# Altium schematic symbol library rcl_PTH.SchLib: 9 symbols (part 2 of 2)
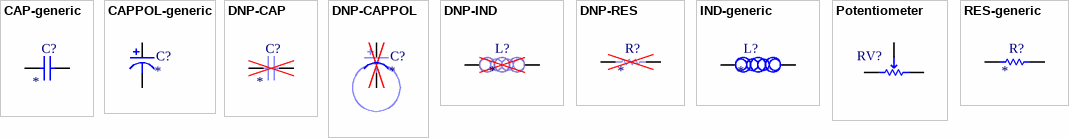
[diagram p1: symbols CAP-generic to RES-generic]

## RES-generic
designator R?
Resistor PTH; Populated: Yes; Value: *; Manuf1: *; Manuf2: *; Manuf1Partnumber: *; Manuf2Partnumber: *; ClassName: *; ROHS: Yes; LifeCycle: Checked; HelpURL: *; Power: *; Tolerance: *
footprint 0204/5
footprint 0204/7
footprint 0204V
footprint 0207/2V
footprint 0207/5V
footprint 0207/7
footprint 0207/10
footprint 0207/12
footprint 0207/15
footprint 0309/10
footprint 0309/12
footprint 0309V
footprint 0411/12
footprint 0411/15
footprint 0414/15
footprint 0414V
footprint 0617/17
footprint 0617/22
footprint 0617V
footprint 0922/22
footprint 0922V
footprint 2200-11.43
footprint 2200-12.7
footprint 2200-15.24
footprint RDH/15
footprint V234/12
footprint V235/17
footprint V526-0
footprint VMTA55
footprint VMTB60
footprint VTA52
footprint VTA53
footprint VTA54
footprint VTA55
footprint VTA56
footprint R Axial 0.4 (Resistor Axial 400 mils)
footprint R Axial 0.6 (Resistor Axial 600 mils)
footprint R Axial 0.8 (Resistor Axial 800 mils)
footprint HPS947
footprint RES762-360X160 (Resistor, Axial, Pad spacing 7.62mm - Body Lengh 3.6mm X Body Diameter 1.6mm)
footprint RES762-360X210 (Resistor, Axial, Pad spacing 7.62mm - Body Lengh 3.6mm X Body Diameter 2.1mm)
footprint RES1016-360X210 (Resistor, Axial, Pad spacing 10.16 mm - Body Lengh 3.6mm X Body Diameter 2.1mm)
footprint RES1016-630X250 (Resistor, Axial, Pad spacing 10.16 mm - Body Lengh 6.3mm X Body Diameter 2.5mm)
footprint RES1016-650X250 (Resistor, Axial, Pad spacing 10.16 mm - Body Lengh 6.5mm X Body Diameter 2.5mm)
footprint RES1016-660X250 (Resistor, Axial, Pad spacing 10.16 mm - Body Lengh 6.6mm X Body Diameter 2.5mm)
footprint RES1016-720X250 (Resistor, Axial, Pad spacing 10.16 mm - Body Lengh 7.2mm X Body Diameter 2.5mm)
footprint RES1270-650X250 (Resistor, Axial, Pad spacing 10.16 mm - Body Lengh 6.6mm X Body Diameter 2.5mm)
footprint RES1651-1000X390 (Resistor, Axial, Pad spacing 16.51mm - Body Lengh 10mm X Body Diameter 3.9mm)
footprint RES1905-1447X546 (Resistor, Axial, Pad spacing 19.05mm - Body Lengh 14.22mm X Body Diameter 5.21mm)
footprint RES2032-1400X350 (Resistor, Axial, Pad spacing 20.32mm - Body Lengh 14mm X Body Diameter 3.5mm)
footprint RES2200-1826X764 (Resistor, Axial, Pad spacing 22mm - Body Lengh 18.26mm X Body Diameter 7.64mm)
footprint RES2286-1670X520 (Resistor, Axial, Pad spacing 22.22 mm - Body Lengh 16.7mm X Body Diameter 5.2mm)
footprint RESAD3048W80L2200D800A (Resistor, Axial, Leads spacing 30.48mm, Lead Dia. 0.8, Body Lengh 22mm, Diameter 8mm)
footprint RESADV508-1447X546 (Resistor, Axial, Vertical Mount, Pad spacing 5.08mm - Body Lengh 14.22mm X Body Diameter 17.2mm)
footprint RESADV508-1670X520 (Resistor, Axial, Vertical Mount, Lead spacing 5.08 mm - Body Lengh 16.7mm X Body Diameter 5.2mm)
footprint RES_ALPHA_MB (Resistor, Radial, Pad spacing 7.5mm - Body 13.3mm X 4.3mm X 10.3mm H)
footprint RES_ARCOL_AP101_h (ARCOL AP101SerieS TO-247 Style, 100W High Power Resistor - Horizontal Mount)
footprint RES_ARCOL_AP101_hflip (ARCOL AP101SerieS TO-247 Style, 100W High Power Resistor - Flipped Horizontal Mount)
footprint RES_ARCOL_AP101_v (ARCOL AP101SerieS TO-247 Style, 100W High Power Resistor - Vertical Mount)
footprint RES_ARCOL_RCC025 (Resistor, Axial, Pad spacing 10.16 mm - Body Lengh 6.3m X Body Diameter 2.4mm)
footprint RES_CADDOCK_MP925-H (CADDOCK MP925 Serie TO-220 Style, Power Film Resistors)
footprint RES_CADDOCK_MP925-V (CADDOCK MP925 Serie TO-220 Style, Power Film Resistor)
footprint RES_CADDOCK_MP2060-V (CADDOCK MP3060 Serie, Radial Power Clip Mount Resistor, Pad spacing 5.08mm)
footprint RES_CADDOCK_MP9100-H (CADDOCK MP9100 Serie TO-247 Style, Power Film Resistors)
footprint RES_CADDOCK_MP9100-V (CADDOCK MP9100 Serie TO-247 Style, Power Film Resistors)
footprint RES_EBG_SSP 52 (Resistor, Axial, Lead Spacing 56.1mm - Body Lengh 52.1mm X Body Diameter 8.2mm)
footprint RES_EBG_SSX 39 (Resistor, Axial, Lead Spacing 46mm - Body Lengh 39.5mm X Body Diameter 8.2mm)
footprint RES_HVR_RT818 (Resistor, Axial, Pad spacing 25.4mm - Body L 18.5mm X D 8mm Lead Diameter 0.812mm)
footprint RES_METALLUX_HV-R 968.2 (Resistor, Axial, Pad Spacing 31mm - Body Lengh 27mm X Body Diameter 8mm)
footprint RES_METALLUX_HVR 968.10 (Resistor, Axial, Lead Spacing 112mm - Body Lengh 102mm X Body Diameter 8mm)
footprint RES_METALLUX_HVR 968.10_a (Resistor, Axial, Lead Spacing 112mm - Body Lengh 102mm X Body Diameter 8mm, Blue Coating)
footprint RES_OHMITE_12 (Resistor, Axial, Pad Spacing 29.4mm - Body Lengh 10.6mm X Body Diameter 2.4mm)
footprint RES_OHMITE_20 (Resistor, Axial, Pad Spacing 53.34mm - Body Lengh 47.2mm X Body Diameter 10mm)
footprint RES_OHMITE_45 (Resistor, Axial, Pad Spacing 29.4mm - Body Lengh 23.8mm X Body Diameter 8.7mm)
footprint RES_OHMITE_91 (Resistor, Axial, Pad Spacing 15.24mm - Body Lengh 11.5mm X Body Diameter 3.6mm)
footprint RES_OHMITE_MOX-4-12 (Resistor, Axial, Pad spacing 110mm - Body Lengh 104.65mm X Body Diameter 7.87mm)
footprint RES_OHMITE_MOX-400-23 (Resistor, Axial, Pad spacing 18mm - Body Lengh 14.78mm X Body Diameter 4.19mm)
footprint RES_OHMITE_OX (Resistor, Axial, Pad spacing 25.4mm - Body Lengh 19mm X Body Diameter 6.5mm)
footprint RES_OHMITE_OY (Resistor, Axial, Pad spacing 30mm - Body Lengh 22.5mm X Body Diameter 8mm)
footprint RES_OHMITE_SM10203 (Resistor, Radial, Pad spacing 10.16mm - Body 14.73mm X 2.54mm X 8.64mm H)
footprint RES_OHMITE_SM10403 (Resistor, Radial, Pad spacing 22.86mm - Body 2.54mm X 27.43mm X 8.64mm H)
footprint RES_PANASONIC_ERG3S (Resistor, Axial, Pad Spacing 20.32mm - Body Lengh 15mm X Body Diameter 5.5mm)
footprint RES_PANASONIC_ERG5S (Resistor, Axial, Pad Spacing 30mm - Body Lengh 24mm X Body Diameter 8mm)
footprint RES_PANASONIC_ERX5S (Resistor, Axial, Pad Spacing 30mm - Body Lengh 24mm X Body Diameter 8mm)
footprint RES_TYCO_C14 (Resistor, Axial, Pad spacing 71.9mm - Body Lengh 53.3mm X Body Diameter 8.5mm)
footprint RES_TYCO_CFR200 (Resistor, Axial, Pad spacing 20.32mm - Body Lengh 16mm X Body Diameter 5.5mm)
footprint RES_TYCO_HB1(RE) (Resistor, Radial, Leads spacing 22.9mm - Body 26.5mm X 3mm X 10.4mm H)
footprint RES_TYCO_HBA(RE) (Resistor, Radial, Leads spacing 5mm - Body 8mm X 2.6mm X 12.5mm H)
footprint RES_TYCO_MPC10 (Resistor, Radial, Leads spacing 20.32mm - Body 25.4mm X 2.54mm X 27.68mm H)
footprint RES_TYCO_ROX2S (Resistor, Axial, Pad spacing 15.24 mm - Body Lengh 12mm X Body Diameter 5mm)
footprint RES_TYCO_SQM (Resistor, Radial, Leads spacing 5mm - Body 13mm X 9mm X 39mm H)
footprint RES_TYCO_SQMW (Resistor, Radial, Pad spacing 5mm - Body 14mm X 10.5mm X 40mm H)
footprint RES_TYCO_UPF50 (Resistor, Axial, Pad spacing 15.24 mm - Body Lengh 10.5mm X Body Diameter 4.4mm)
footprint RES_VISHAY_AC01 (Resistor, Axial, Pad spacing 15.24 mm - Body Lengh 11mm X Body Diameter 4.3mm)
footprint RES_VISHAY_AC03 (Resistor, Axial, Pad spacing 20.32mm - Body Lengh 13mm X Body Diameter 4.8mm)
footprint RES_VISHAY_CMF60 (Resistor, Axial, Pad spacing 13 mm - Body Lengh 8.74mm X Body Diameter 3.68mm)
footprint RES_VISHAY_CMF65 (Resistor, Axial, Pad spacing 13 mm - Body Lengh 14.27mm X Body Diameter 4.57mm)
footprint RES_VISHAY_CNS020 (Resistor, Radial, Pad spacing 5.08mm - Body 8.1mm x 2.54mm)
footprint RES_VISHAY_CPF1 (Resistor, Axial, Pad spacing 10.16mm - Body Lengh 7.87mm X Body Diameter 2.5mm)
footprint RES_VISHAY_CPF2 (Resistor, Axial, Pad spacing 12.7mm - Body Lengh 8.74mm X Body Diameter 3.68mm)
footprint RES_VISHAY_CPF3 (Resistor, Axial, Pad spacing 20.32mm - Body Lengh 16.51mm X Body Diameter 4.95mm)
footprint RES_VISHAY_CW02B (Resistor, Axial, Pad spacing 20.32mm - Body Lengh 15.8mm X Body Diameter 5.6mm)
footprint RES_VISHAY_CW005 (Resistor, Axial, Pad spacing 29.5mm - Body Lengh 25.4mm X Body Diameter 8.74mm)
footprint RES_VISHAY_MRA-10 (Resistor, Axial, Pad spacing 30.48mm - Body Lengh 22.22mm X Body Diameter 7.92mm)
footprint RES_VISHAY_MRA-12 (Resistor, Axial, Pad spacing 38.1mm - Body Lengh 30.17mm X Body Diameter 7.92mm)
footprint RES_VISHAY_ROX400 (Resistor, Axial, Pad spacing 110mm - Body Lengh 105.41mm X Body Diameter 7.87mm)
footprint RES_VISHAY_RTO50F_v (TO-220 Thick Film Power Resistor)
footprint RES_VISHAY_RTOP200V_FLIP (SOT-227B Thick Film Power Resistor)
footprint RES_VISHAY_RWM8X45 (Resistor, Axial, Leads Spacing 52mm, Lead Dia. 0.8, Body Lengh 45.8mm, Diameter 9.4mm)
footprint RES_VISHAY_S102J (Resistor, Radial Rectangular, Leads  Spacing 5.08mm - Body 7.62mm X mm X 2.67mm)
footprint RES_VISHAY_VHP103-319012 (Resistor, Radial, Pad spacing 5.08mm - Body 4.62mm X 11.05mm X 10.92mm H)
footprint RES_VISHAY_VHP202 (Resistor, Radial, Pad spacing 3.81mm - Body 5.21mm X 11.56mm X 13.84mm H)
footprint RES_VISHAY_VHP202Z (Resistor, Radial, Pad spacing 3.81mm - Body 4.11mm X 10.54mm X 13.3mm H)
footprint RES_VISHAY_VR25 (Resistor, Axial, Pad spacing 10.16 mm - Body Lengh 6.5mm X Body Diameter 2.5mm)
footprint RES_VISHAY_VR68 (Resistor, Axial, Pad spacing 25.4mm - Body Lengh 18mm X Body Diameter 6.8mm)
footprint RES_VISHAY_Y2025 (Resistor, Radial Rectangular, Leads  Spacing 3.81mm - Body 7.62mm X mm X 2.67mm)
footprint PWR-22x10x10
pins: 1, 2